# EAGLE library part FS57003PL (library switch-e-switch)
DP3T Stomp Switch
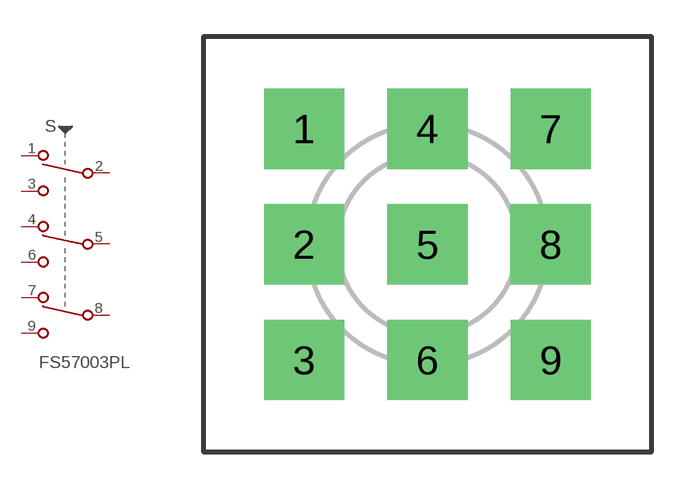
[diagram p19: symbol with the pads of FS57003PL; footprint FS57003PL]

Designator prefix S

## FS57003PL  [FS57003PL]
1  A1  pas
2  A2  pas
3  A3  pas
4  B1  pas
5  B2  pas
6  B3  pas
7  C1  pas
8  C2  pas
9  C3  pas

## Footprint FS57003PL (pad centres in mm)
DP3T Stomp Switch Blue Taiwan, PC Mount Leads
drill 1.778 pad 3.302 square: 1 -5.08,4.763; 2 -5.08,0; 3 -5.08,-4.763; 4 0,4.763; 5 0,0; 6 0,-4.763; 7 5.08,4.763; 8 5.067,0; 9 5.08,-4.763